# EAGLE library part ATMEGA1284P-MU (library Deegou-MCUs)
IC MCU 8BIT 128KB FLASH 44QFN
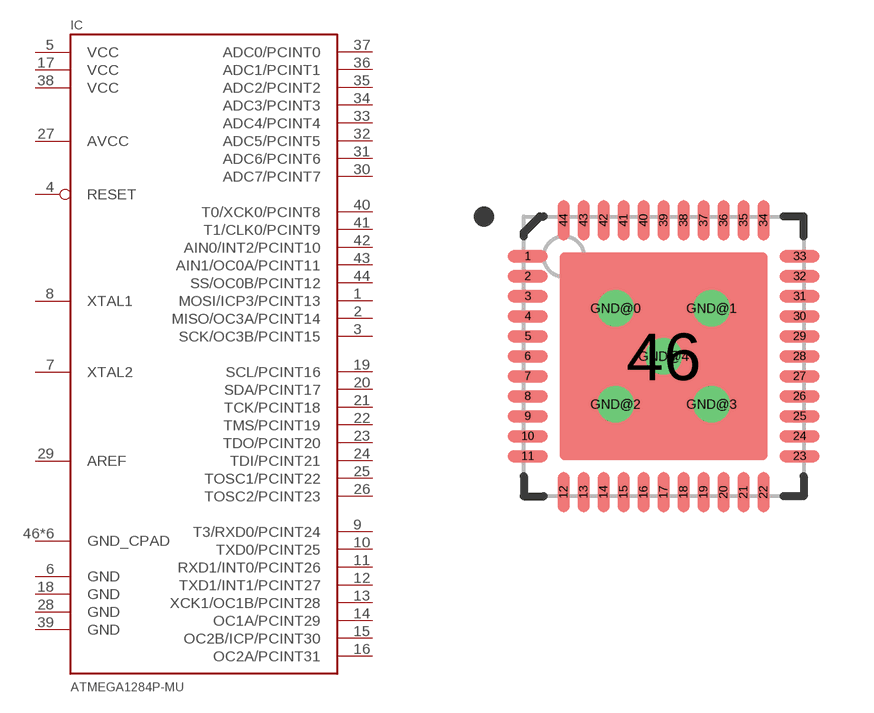
[diagram p2: symbol with the pads of VQFN44; footprint VQFN44]

Designator prefix IC

## ATMEGA1284P-MU (MFR: ATMEL; MPN: ATMEGA1284P-MU; VALUE: ATMEGA1284P-MU)  [VQFN44]
1  MOSI/ICP3/PCINT13
2  MISO/OC3A/PCINT14
3  SCK/OC3B/PCINT15
4  RESET
5  VCC
6  GND
7  XTAL2
8  XTAL1
9  T3/RXD0/PCINT24
10  TXD0/PCINT25
11  RXD1/INT0/PCINT26
12  TXD1/INT1/PCINT27
13  XCK1/OC1B/PCINT28
14  OC1A/PCINT29
15  OC2B/ICP/PCINT30
16  OC2A/PCINT31
17  VCC
18  GND
19  SCL/PCINT16
20  SDA/PCINT17
21  TCK/PCINT18
22  TMS/PCINT19
23  TDO/PCINT20
24  TDI/PCINT21
25  TOSC1/PCINT22
26  TOSC2/PCINT23
27  AVCC
28  GND
29  AREF
30  ADC7/PCINT7
31  ADC6/PCINT6
32  ADC5/PCINT5
33  ADC4/PCINT4
34  ADC3/PCINT3
35  ADC2/PCINT2
36  ADC1/PCINT1
37  ADC0/PCINT0
38  VCC
39  GND
40  T0/XCK0/PCINT8
41  T1/CLK0/PCINT9
42  AIN0/INT2/PCINT10
43  AIN1/OC0A/PCINT11
44  SS/OC0B/PCINT12
46  GND_CPAD
GND@0  GND_CPAD
GND@1  GND_CPAD
GND@2  GND_CPAD
GND@3  GND_CPAD
GND@4  GND_CPAD

## Footprint VQFN44 (pad centres in mm)
smd 1 x 0.3: 1 -3.4,2.5; 2 -3.4,2; 3 -3.4,1.5; 4 -3.4,1; 5 -3.4,0.5; 6 -3.4,0; 7 -3.4,-0.5; 8 -3.4,-1; 9 -3.4,-1.5; 10 -3.4,-2; 11 -3.4,-2.5; 23 3.4,-2.5; 24 3.4,-2; 25 3.4,-1.5; 26 3.4,-1; 27 3.4,-0.5; 28 3.4,0; 29 3.4,0.5; 30 3.4,1; 31 3.4,1.5; 32 3.4,2; 33 3.4,2.5
smd 0.3 x 1: 12 -2.5,-3.4; 13 -2,-3.4; 14 -1.5,-3.4; 15 -1,-3.4; 16 -0.5,-3.4; 17 0,-3.4; 18 0.5,-3.4; 19 1,-3.4; 20 1.5,-3.4; 21 2,-3.4; 22 2.5,-3.4; 34 2.5,3.4; 35 2,3.4; 36 1.5,3.4; 37 1,3.4; 38 0.5,3.4; 39 0,3.4; 40 -0.5,3.4; 41 -1,3.4; 42 -1.5,3.4; 43 -2,3.4; 44 -2.5,3.4
smd 5.2 x 5.2: 46 0,0
drill 0.4: GND@0 -1.2,1.2; GND@1 1.2,1.2; GND@2 -1.2,-1.2; GND@3 1.2,-1.2; GND@4 0,0